# EAGLE library part TC58CVG2S0 (library toshiba)
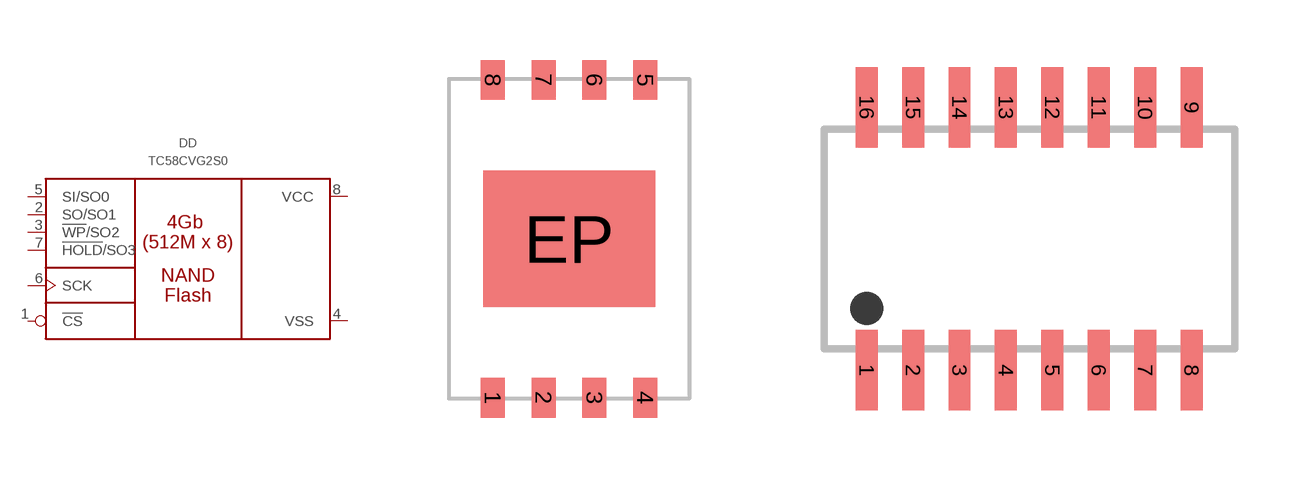
[diagram p0: symbol with the pads of WDFN-8; footprints WDFN-8, SOP16]

Designator prefix DD

## TC58CVG2S0HRAIG-ND  [WDFN-8]
1  !CS  in
2  SO/SO1
3  !WP!/SO2
4  VSS  pwr
5  SI/SO0
6  SCK  in
7  !HOLD!/SO3
8  VCC  pwr

## TC58CVG2S0HQAIE-ND  [SOP16]
1  !HOLD!/SO3
2  VCC  pwr
7  !CS  in
8  SO/SO1
9  !WP!/SO2
10  VSS  pwr
15  SI/SO0
16  SCK  in

## Footprint WDFN-8 (pad centres in mm)
smd 0.6 x 1: 1 -1.905,-3.975; 2 -0.635,-3.975; 3 0.635,-3.975; 4 1.905,-3.975; 5 1.905,3.975; 6 0.635,3.975; 7 -0.635,3.975; 8 -1.905,3.975
smd 4.3 x 3.4: EP 0,0

## Footprint SOP16 (pad centres in mm)
SMALL OUTLINE PACKAGE
smd 0.6 x 2.2: 1 -4.445,-3.6; 2 -3.175,-3.6; 3 -1.905,-3.6; 4 -0.635,-3.6; 5 0.635,-3.6; 6 1.905,-3.6; 7 3.175,-3.6; 8 4.445,-3.6; 9 4.445,3.6; 10 3.175,3.6; 11 1.905,3.6; 12 0.635,3.6; 13 -0.635,3.6; 14 -1.905,3.6; 15 -3.175,3.6; 16 -4.445,3.6